# EAGLE library part SN74AVCA406L (library joule_shield)
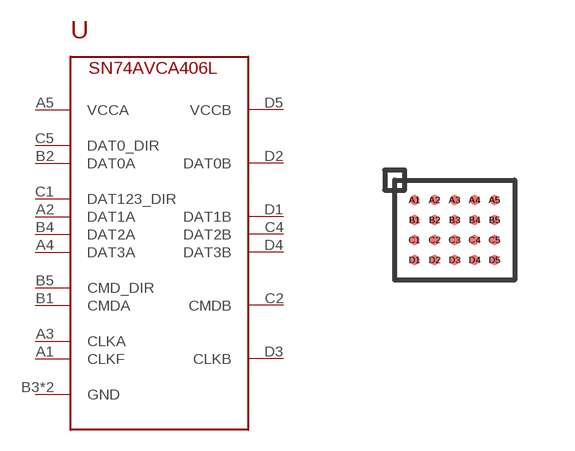
[diagram p12: symbol with the pads of S-PBGA-N20; footprint S-PBGA-N20]

Designator prefix -

## SN74AVCA406L  [S-PBGA-N20]
A1  CLKF
A2  DAT1A
A3  CLKA
A4  DAT3A
A5  VCCA
B1  CMDA
B2  DAT0A
B3  GND
B4  DAT2A
B5  CMD_DIR
C1  DAT123_DIR
C2  CMDB
C3  GND
C4  DAT2B
C5  DAT0_DIR
D1  DAT1B
D2  DAT0B
D3  CLKB
D4  DAT3B
D5  VCCB

## Footprint S-PBGA-N20 (pad centres in mm)
smd 0.25 x 0.25: A1 -1,0.75; A2 -0.5,0.75; A3 0,0.75; A4 0.5,0.75; A5 1,0.75; B1 -1,0.25; B2 -0.5,0.25; B3 0,0.25; B4 0.5,0.25; B5 1,0.25; C1 -1,-0.25; C2 -0.5,-0.25; C3 0,-0.25; C4 0.5,-0.25; C5 1,-0.25; D1 -1,-0.75; D2 -0.5,-0.75; D3 0,-0.75; D4 0.5,-0.75; D5 1,-0.75